# Altium schematic symbol library 64800811622 Header 8 replace.SCHLIB: 1 symbol
Pins are listed as number, name and electrical type; pins without a type are passive.

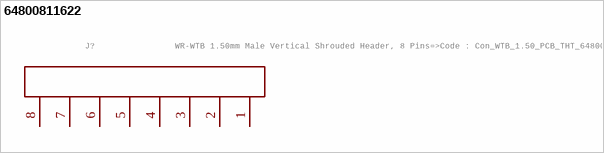
[diagram p0: symbol 64800811622]

## 64800811622
designator J?, comment WR-WTB 1.50mm Male Vertical Shrouded Header, 8 Pins=>Code : Con_WTB_1.50_PCB_THT_64800811622     Details see: http://katalog.we-online.de/en/em/WTB_1_50_MALE_VERTICAL_SHROUDED_HEADER_6480XX11622   Created 2014-06-05, Karrer Zheng 2014 (C) WÃ¼rth Elektronik Check prices
GateName_1: G$1; SymbolName_1: 8; Description: EMI Gaskets, Sheets, Absorbers & Shielding; MF: Wurth Elektronik; LibraryName: 64800811622 Header 8 replace; DeviceSetName: 64800811622; Package: 64800811622; Price: None; Availability: No availability data; MP: 64800811622; Package: None
footprint 64800811622
pins: 1, 2, 3, 4, 5, 6, 7, 8